# Altium integrated library DIP 1 switch.IntLib: 1 symbol
Pins are listed as number, name and electrical type; pins without a type are passive.

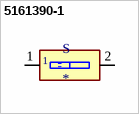
[diagram p0: symbol 5161390-1]

## 5161390-1
designator S
Switch DIP OFF ON SPST 1 Top Slide 25A 50VDC PC Pins 2.54mm Thru-Hole Box/Carton; MP: 5161390-1; MF: TE Connectivity; TE_purchase_URL: https://www.te.com/usa-en/product-5161390-1.html?te_bu=Cor&te_type=disp&te_campaign=seda_glo_cor-seda-global-disp-prtnr-fy19-seda-model-bom-cta_sma-317_1&elqCampaignId=32493; Package: None; SnapEDA_Link: https://www.snapeda.com/parts/5161390-1/TE%20Connectivity%20ALCOSWITCH%20Switches/view-part/1375142/?ref=snap; Value: *; Availability: Unavailable; EU_RoHS_Compliance: Compliant; Price: None
footprint SW_5161390-1
pins: 1, 2